# EAGLE library part 27SF512 (library plccflash)
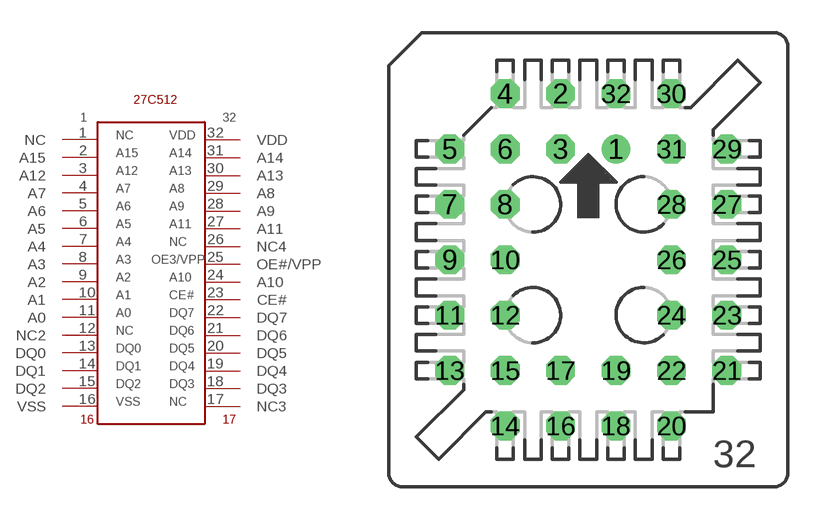
[diagram p0: symbol with the pads of S32; footprint S32]

Designator prefix -

## 27SF512  [S32]
1  NC  nc
2  A15
3  A12
4  A7
5  A6
6  A5
7  A4
8  A3
9  A2
10  A1
11  A0
12  NC2  nc
13  DQ0
14  DQ1
15  DQ2
16  VSS  pwr
17  NC3  nc
18  DQ3
19  DQ4
20  DQ5
21  DQ6
22  DQ7
23  CE#
24  A10
25  OE#/VPP
26  NC4  nc
27  A11
28  A9
29  A8
30  A13
31  A14
32  VDD  pwr

## Footprint S32 (pad centres in mm)
PLCC SOCKET
drill 0.813: 1 1.27,5.08
drill 0.813 octagon: 2 -1.27,7.62; 3 -1.27,5.08; 4 -3.81,7.62; 5 -6.35,5.08; 6 -3.81,5.08; 7 -6.35,2.54; 8 -3.81,2.54; 9 -6.35,0; 10 -3.81,0; 11 -6.35,-2.54; 12 -3.81,-2.54; 13 -6.35,-5.08; 14 -3.81,-7.62; 15 -3.81,-5.08; 16 -1.27,-7.62; 17 -1.27,-5.08; 18 1.27,-7.62; 19 1.27,-5.08; 20 3.81,-7.62; 21 6.35,-5.08; 22 3.81,-5.08; 23 6.35,-2.54; 24 3.81,-2.54; 25 6.35,0; 26 3.81,0; 27 6.35,2.54; 28 3.81,2.54; 29 6.35,5.08; 30 3.81,7.62; 31 3.81,5.08; 32 1.27,7.62